# EAGLE library part TPS61232 (library daqcs)
Boost Switching Regulator IC Positive Fixed 5V 1 Output 4A (Switch) 10-VFDFN Exposed Pad
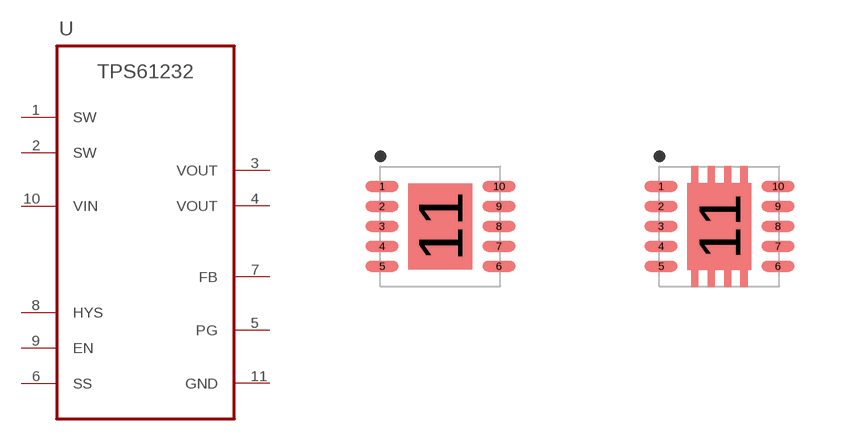
[diagram p23: symbol with the pads of DRC0010G; footprints DRC0010G, DRC0010G_BAK]

Designator prefix U

## TPS61232_NP (DATASHEET: HW/docs/projects/raspi_zero_power_sensor_hat/datasheets/boost_approved/tps61232.pdf; MANUFACTURER: Texas Instruments; MANUFACTURER_PN: TPS61232DRCR; VALUE: TPS61232; VENDOR: Digi-key; VENDOR_PN: 296-44498-1-ND)  [DRC0010G]
1  SW
2  SW
3  VOUT  pwr
4  VOUT  pwr
5  PG  oc
6  SS  in
7  FB  in
8  HYS  out
9  EN  in
10  VIN  in
11  GND  pwr

## TPS61232_BAK  [DRC0010G_BAK]
Pads as for DRC0010G

## TPS61232_SM (DATASHEET: HW/docs/projects/raspi_zero_power_sensor_hat/datasheets/boost_approved/tps61232.pdf; MANUFACTURER: Texas Instruments; MANUFACTURER_PN: TPS61232DRCR; VALUE: TPS61232; VENDOR: Digi-key; VENDOR_PN: 296-44498-1-ND)  [DRC0010G_SM]
Pads as for DRC0010G

## Footprint DRC0010G (pad centres in mm)
smd 0.825 x 0.28: 1 -1.462,1; 2 -1.462,0.5; 3 -1.462,0; 4 -1.462,-0.5; 5 -1.462,-1; 6 1.462,-1; 7 1.462,-0.5; 8 1.462,0; 9 1.462,0.5; 10 1.462,1
smd 1.6 x 2.15: 11 0,0

## Footprint DRC0010G_BAK (pad centres in mm)
smd 0.825 x 0.28: 1 -1.462,1; 2 -1.462,0.5; 3 -1.462,0; 4 -1.462,-0.5; 5 -1.462,-1; 6 1.462,-1; 7 1.462,-0.5; 8 1.462,0; 9 1.462,0.5; 10 1.462,1
smd 1.5 x 2.05: 11 0,0

## Footprint DRC0010G_SM (pad centres in mm)
smd 0.825 x 0.28: 1 -1.462,1; 2 -1.462,0.5; 3 -1.462,0; 4 -1.462,-0.5; 5 -1.462,-1; 6 1.462,-1; 7 1.462,-0.5; 8 1.462,0; 9 1.462,0.5; 10 1.462,1
smd 1.6 x 2.15: 11 0,0